# EAGLE library part GS1011MXXS (library my)
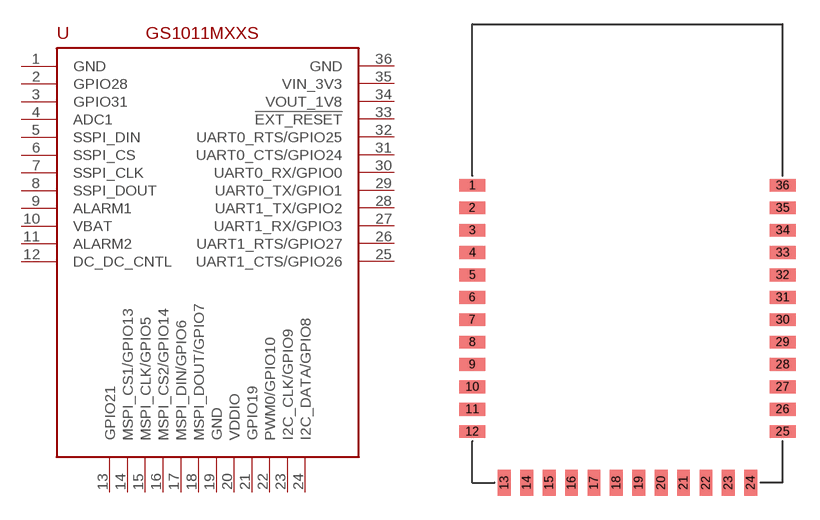
[diagram p3: symbol with the pads of GS1011MXXS; footprint GS1011MXXS]

Designator prefix -

## GS1011MXXS  [GS1011MXXS]
1  GND  pwr
2  GPIO28
3  GPIO31
4  ADC1  out
5  SSPI_DIN
6  SSPI_CS
7  SSPI_CLK
8  SSPI_DOUT  out
9  ALARM1  out
10  VBAT  pwr
11  ALARM2
12  DC_DC_CNTL  out
13  GPIO21
14  MSPI_CS1/GPIO13
15  MSPI_CLK/GPIO5
16  MSPI_CS2/GPIO14
17  MSPI_DIN/GPIO6
18  MSPI_DOUT/GPIO7
19  GND  pwr
20  VDDIO  pwr
21  GPIO19
22  PWM0/GPIO10
23  I2C_CLK/GPIO9
24  I2C_DATA/GPIO8
25  UART1_CTS/GPIO26
26  UART1_RTS/GPIO27
27  UART1_RX/GPIO3
28  UART1_TX/GPIO2
29  UART0_TX/GPIO1
30  UART0_RX/GPIO0
31  UART0_CTS/GPIO24
32  UART0_RTS/GPIO25
33  !EXT_RESET
34  VOUT_1V8  out
35  VIN_3V3  pwr
36  GND  pwr

## Footprint GS1011MXXS (pad centres in mm)
smd 1.6 x 0.8: 1 0,18.6; 2 0,17.2; 3 0,15.8; 4 0,14.4; 5 0,13; 6 0,11.6; 7 0,10.2; 8 0,8.8; 9 0,7.4; 10 0,6; 11 0,4.6; 12 0,3.2; 25 19.4,3.2; 26 19.4,4.6; 27 19.4,6; 28 19.4,7.4; 29 19.4,8.8; 30 19.4,10.2; 31 19.4,11.6; 32 19.4,13; 33 19.4,14.4; 34 19.4,15.8; 35 19.4,17.2; 36 19.4,18.6
smd 0.8 x 1.6: 13 2,0; 14 3.4,0; 15 4.8,0; 16 6.2,0; 17 7.6,0; 18 9,0; 19 10.4,0; 20 11.8,0; 21 13.2,0; 22 14.6,0; 23 16,0; 24 17.4,0